# EAGLE library part CKN10616 (library divchrono)
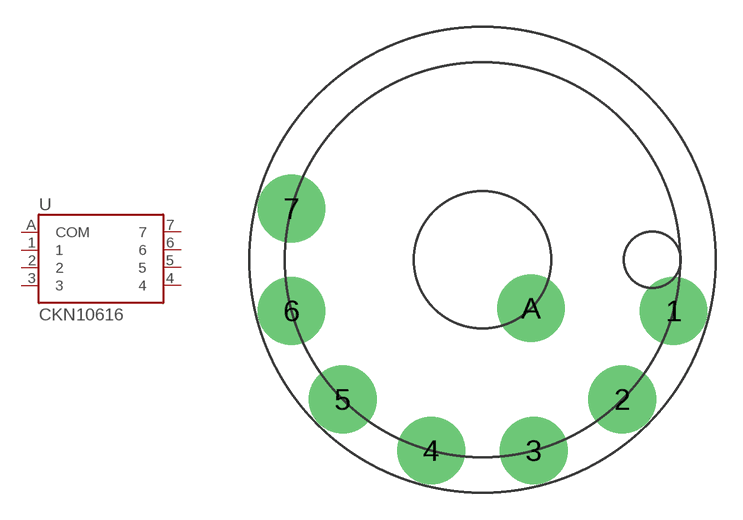
[diagram p2: symbol with the pads of CKN10616; footprint CKN10616]

Designator prefix -

## CKN10616  [CKN10616]
1  1
2  2
3  3
4  4
5  5
6  6
7  7
A  COM

## Footprint CKN10616 (pad centres in mm)
drill 1.6 pad 3.81: 1 10.721,-2.873; 2 7.849,-7.849; 3 2.873,-10.721; 4 -2.873,-10.721; 5 -7.849,-7.849; 6 -10.721,-2.873; 7 -10.721,2.873; A 2.72,-2.72